# EAGLE library part SN74HC86 (library bschulz)
SN74HC86 - XOR, 4 Element, 2 Input Characteristics: VCC: 2 ~ 6V Operating Temperature: -40°C to 85°C Digikey: 296-8374-5-ND (SOIC) <https://www.digikey.com/product-detail/en/texas-instruments/SN74HC86D/296-8374-5-ND/376849> 296-8375-5-ND (DIP) <https://www.digikey.com/product-detail/en/texas-instruments/SN74HC86N/296-8375-5-ND/376842>
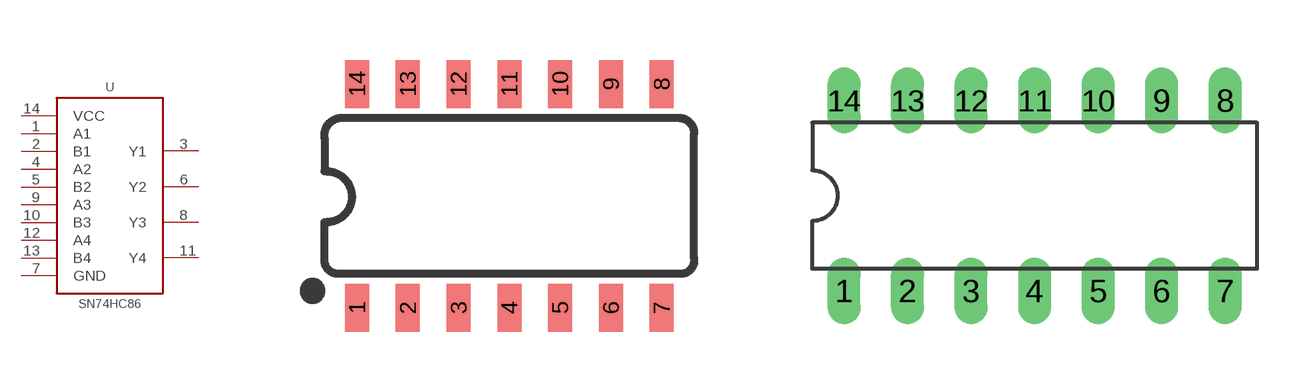
[diagram p50: symbol with the pads of SO14; footprints SO14, DIL14]

Designator prefix U

## SN74HC86D (DIGIKEY: 296-8374-5-ND; MF: TI; MPN: SN74HC86D)  [SO14]
1  A1  in
2  B1  in
3  Y1  out
4  A2  in
5  B2  in
6  Y2  out
7  GND  pwr
8  Y3  out
9  A3  in
10  B3  in
11  Y4  out
12  A4  in
13  B4  in
14  VCC  pwr

## SN74HC86N (DIGIKEY: 296-8375-5-ND; MF: TI; MPN: SN74HC86N)  [DIL14]
Pads as for SO14

## Footprint SO14 (pad centres in mm)
SOIC, 0.15 inch width
smd 0.6 x 1.2: 1 -3.175,-2.8; 2 -1.905,-2.8; 3 -0.635,-2.8; 4 0.635,-2.8; 5 1.905,-2.8; 6 3.175,-2.8; 7 4.445,-2.8; 8 4.445,2.8; 9 3.175,2.8; 10 1.905,2.8; 11 0.635,2.8; 12 -0.635,2.8; 13 -1.905,2.8; 14 -3.175,2.8

## Footprint DIL14 (pad centres in mm)
Dual In Line Package
drill 0.813 long: 1 -7.62,-3.81; 2 -5.08,-3.81; 3 -2.54,-3.81; 4 0,-3.81; 5 2.54,-3.81; 6 5.08,-3.81; 7 7.62,-3.81; 8 7.62,3.81; 9 5.08,3.81; 10 2.54,3.81; 11 0,3.81; 12 -2.54,3.81; 13 -5.08,3.81; 14 -7.62,3.81